# Altium integrated library MCP1799T-5002HDB.IntLib: 1 symbol
Pins are listed as number, name and electrical type; pins without a type are passive.

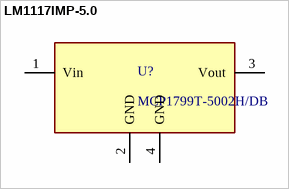
[diagram p0: symbol LM1117IMP-5.0]

## LM1117IMP-5.0
designator U?, comment MCP1799T-5002H/DB
LDO 5V 80mA SOT-223; MF: Texas Instruments; MP: LM1117IMP-5.0; Availability: Bad; SnapEDA_Link: https://www.snapeda.com/parts/LM1117IMP-5.0/Texas%20Instruments/view-part/4449502/?ref=snap; Price: None; Check_prices: https://www.snapeda.com/parts/LM1117IMP-5.0/Texas%20Instruments/view-part/4449502/?ref=eda; Package: SOT-223 Texas Instruments; Purchase-URL: https://pricing.snapeda.com/search/part/LM1117IMP-5.0/?ref=eda; Value: *
footprint SOT223
pins: 1 Vin (power), 2 GND (power), 3 Vout (power), 4 GND (power)